# Altium integrated library ECQE4103JF.IntLib: 1 symbol
Pins are listed as number, name and electrical type; pins without a type are passive.

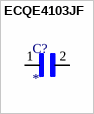
[diagram p0: symbol ECQE4103JF]

## ECQE4103JF
designator C?
MP: ECQE4103JF; Availability: Unavailable; Package: None; Value: *; Price: None
footprint CAPRR750W60L1030T430H740
pins: 1, 2